# EAGLE library part AS24-61 (library con-deutsch)
DEUTSCH Connector
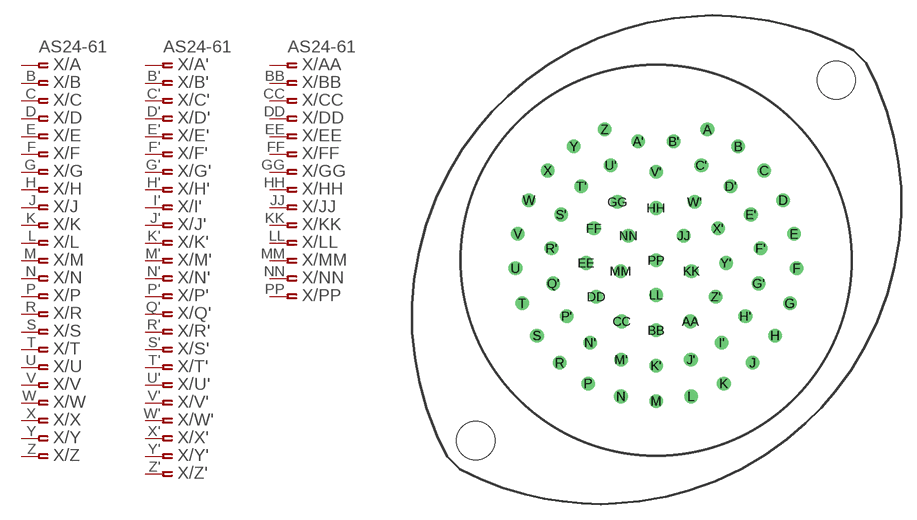
[diagram p22: symbol with the pads of AS24-61; footprint AS24-61]

Designator prefix X; gates /A=PINF_VAL /B=ASPINF /C=ASPINF /D=ASPINF /E=ASPINF /F=ASPINF /G=ASPINF /H=ASPINF /J=ASPINF /K=ASPINF /L=ASPINF /M=ASPINF /N=ASPINF /P=ASPINF /R=ASPINF /S=ASPINF /T=ASPINF /U=ASPINF /V=ASPINF /W=ASPINF /X=ASPINF /Y=ASPINF /Z=ASPINF /A'=PINF_VAL /B'=ASPINF /C'=ASPINF /D'=ASPINF /E'=ASPINF /F'=ASPINF /G'=ASPINF /H'=ASPINF /J'=ASPINF /K'=ASPINF /M'=ASPINF /N'=ASPINF /P'=ASPINF /R'=ASPINF /S'=ASPINF /T'=ASPINF /U'=ASPINF /V'=ASPINF /W'=ASPINF /X'=ASPINF /Y'=ASPINF /Z'=ASPINF /AA=PINF_VAL /BB=ASPINF /CC=ASPINF /DD=ASPINF /EE=ASPINF /FF=ASPINF /GG=ASPINF /HH=ASPINF /JJ=ASPINF /KK=ASPINF /LL=ASPINF /MM=ASPINF /NN=ASPINF /PP=ASPINF /I'=ASPINF /Q'=ASPINF

## AS24-61 (OC_FARNELL: unknown; OC_NEWARK: unknown)  [AS24-61]
A  /A:1  pas
A'  /A':1  pas
AA  /AA:1  pas
B  /B:1  pas
B'  /B':1  pas
BB  /BB:1  pas
C  /C:1  pas
C'  /C':1  pas
CC  /CC:1  pas
D  /D:1  pas
D'  /D':1  pas
DD  /DD:1  pas
E  /E:1  pas
E'  /E':1  pas
EE  /EE:1  pas
F  /F:1  pas
F'  /F':1  pas
FF  /FF:1  pas
G  /G:1  pas
G'  /G':1  pas
GG  /GG:1  pas
H  /H:1  pas
H'  /H':1  pas
HH  /HH:1  pas
I'  /I':1  pas
J  /J:1  pas
J'  /J':1  pas
JJ  /JJ:1  pas
K  /K:1  pas
K'  /K':1  pas
KK  /KK:1  pas
L  /L:1  pas
LL  /LL:1  pas
M  /M:1  pas
M'  /M':1  pas
MM  /MM:1  pas
N  /N:1  pas
N'  /N':1  pas
NN  /NN:1  pas
P  /P:1  pas
P'  /P':1  pas
PP  /PP:1  pas
Q'  /Q':1  pas
R  /R:1  pas
R'  /R':1  pas
S  /S:1  pas
S'  /S':1  pas
T  /T:1  pas
T'  /T':1  pas
U  /U:1  pas
U'  /U':1  pas
V  /V:1  pas
V'  /V':1  pas
W  /W:1  pas
W'  /W':1  pas
X  /X:1  pas
X'  /X':1  pas
Y  /Y:1  pas
Y'  /Y':1  pas
Z  /Z:1  pas
Z'  /Z':1  pas

## Footprint AS24-61 (pad centres in mm)
DEUTSCH Connector
drill 0.813: A 4.978,12.7; A' -1.727,11.532; AA 3.327,-5.918; B 7.976,11.049; B' 1.727,11.532; BB 0,-6.782; C 10.49,8.712; C' 4.394,9.22; CC -3.327,-5.918; D 12.319,5.842; D' 7.239,7.188; DD -5.791,-3.531; E 13.386,2.565; E' 9.195,4.445; EE -6.782,-0.254; F 13.614,-0.762; F' 10.135,1.168; FF -6.02,3.099; G 12.979,-4.166; G' 9.957,-2.235; GG -3.734,5.664; H 11.532,-7.29; H' 8.661,-5.41; HH 0,5.08; I' 6.375,-7.976; J 9.347,-9.931; J' 3.378,-9.627; JJ 2.667,2.388; K 6.579,-11.938; K' 0,-10.211; KK 3.429,-1.041; L 3.404,-13.183; LL 0,-3.353; M 0,-13.64; M' -3.378,-9.627; MM -3.429,-1.041; N -3.404,-13.183; N' -6.375,-7.976; NN -2.667,2.388; P -6.579,-11.938; P' -8.661,-5.41; PP 0,0; Q' -9.957,-2.235; R -9.347,-9.931; R' -10.135,1.168; S -11.532,-7.29; S' -9.195,4.445; T -12.979,-4.166; T' -7.239,7.188; U -13.614,-0.762; U' -4.394,9.22; V -13.386,2.565; V' 0,8.585; W -12.319,5.842; W' 3.734,5.664; X -10.49,8.712; X' 6.02,3.099; Y -7.976,11.049; Y' 6.782,-0.254; Z -4.978,12.7; Z' 5.791,-3.531
hole 3.7 at -17.462,-17.462
hole 3.7 at 17.462,17.462